# Altium footprint library DC-005.PcbLib: 1 footprints
Each footprint in its own frame and in the unit in brackets; x right, y up, seen from the top. Pads: shape width x height; smd on the part's side, far side on the other; paste and mask are expansions set on the pad; w line width, h text height; cw(c..) or ccw(c..) is an arc to the next point about the centre after c.
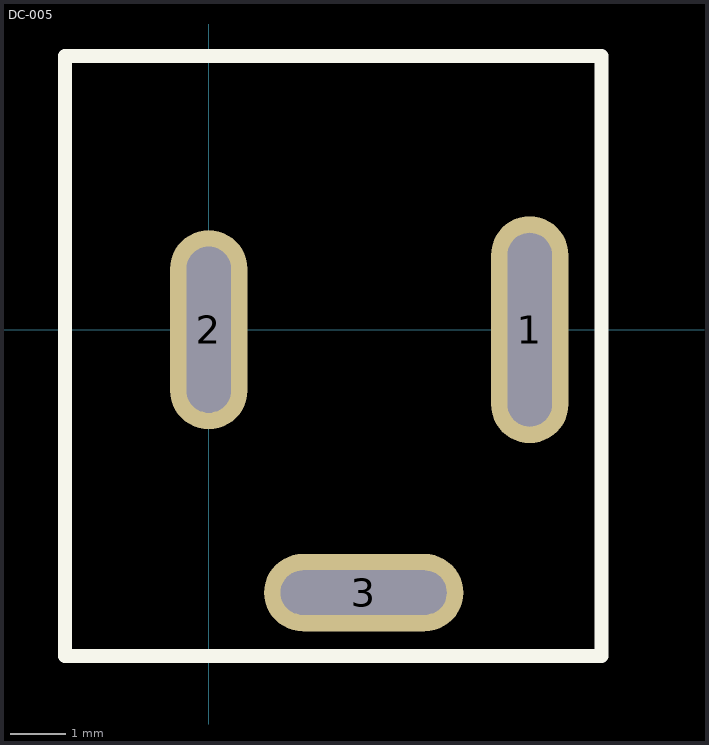
[diagram p0: the footprint, top view; thin cyan lines are the x and y axes]

## DC-005 [mm]
pads (3):
  rrect100% 1.4x4.1 hole 3.5 slot 0.8 at 0 deg paste-1000 mask+0: 1(5.8,0)
  rrect100% 1.4x3.6 hole 3 slot 0.8 at 0 deg paste-1000 mask+0: 2(0,0)
  rrect100% 3.6x1.4 hole 3 slot 0.8 at 90 deg paste-1000 mask+0: 3(2.8,-4.75)
Top Overlay:
  lines w0.254: -2.6,0 -2.6,-5.9 7.1,-5.9 7.1,4.95 -2.6,4.95 -2.6,0 ; -2.6,0 -2.6,0
3D body "DC-005.STEP": height 10.8, standoff -3.72, extent -7.79,-4.95 6.69,4.54